# EAGLE library part IRF5810TRPBF (library led_matrix_master_lib)
MOSFET 2P-CH 20V 2.9A 6-TSOP
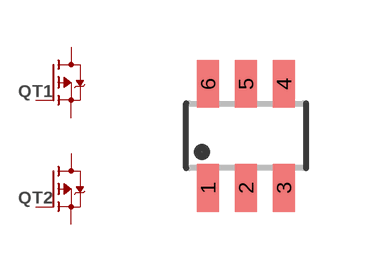
[diagram p2: symbol with the pads of SOT23-6; footprint SOT23-6]

Designator prefix Q; gates T1=P-MOSFET T2=P-MOSFET

## IRF5810TRPBF (COMPEL: http://www.compel.ru/infosheet/IR/IRF5810TRPBF/; DIGIKEY#: IRF5810TRPBFTR-ND; LINK: http://www.chipdip.ru/product/irf5810trpbf/; MANF: Infineon Technologies Americas Corp; MANF#: IRF5810TRPBF)  [SOT23-6]
1  T1:G  pas
2  T2:S  pas
3  T2:G  pas
4  T2:D  pas
5  T1:S  pas
6  T1:D  pas

## Footprint SOT23-6 (pad centres in mm)
smd 0.55 x 1.2: 1 -0.95,-1.3; 2 0,-1.3; 3 0.95,-1.3; 4 0.95,1.3; 5 0,1.3; 6 -0.95,1.3